# Altium footprint library PcbLib.PcbLib: 34 footprints (part 3 of 3)
Each footprint in its own frame and in the unit in brackets; x right, y up, seen from the top. Pads: shape width x height; smd on the part's side, far side on the other; paste and mask are expansions set on the pad; w line width, h text height; cw(c..) or ccw(c..) is an arc to the next point about the centre after c.
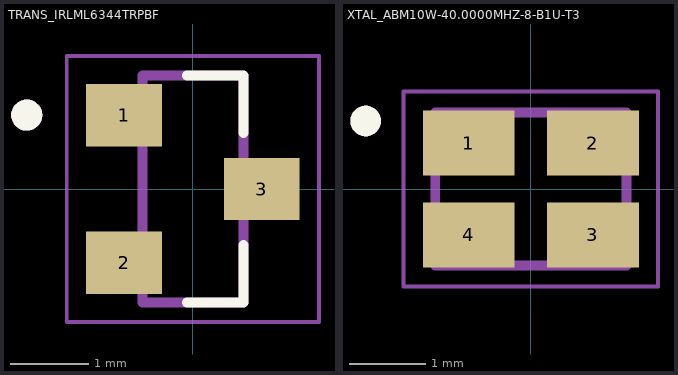
[diagram p2: the footprints below, top view; thin cyan lines are the x and y axes]

## TRANS_IRLML6344TRPBF [mm]
height 1.12
pads (3):
  rect 0.972x0.802 smd: 1(-0.885,0.95) 2(-0.885,-0.95) 3(0.885,0)
Top Overlay:
  circle w0.2: c-2.135,0.95 r0.1
  lines w0.127: -0.079,-1.46 0.65,-1.46 0.65,-0.721 ; -0.079,1.46 0.65,1.46 0.65,0.721
Top 3D Body:
  circle w0.2: c-2.135,0.95 r0.1
  lines w0.127: -0.65,-1.46 0.65,-1.46 0.65,1.46 -0.65,1.46 -0.65,-1.46
Top Courtyard:
  lines w0.05: -1.621,-1.71 1.621,-1.71 1.621,1.71 -1.621,1.71 -1.621,-1.71
3D body "step_temp.STEP": height 1.12, standoff 0, extent -1.255,-1.46 1.255,1.46

## XTAL_ABM10W-40.0000MHZ-8-B1U-T3 [mm]
height 0.6
pads (4):
  rect 1.2x0.85 smd: 1(-0.812,0.6) 2(0.812,0.6) 3(0.812,-0.6) 4(-0.812,-0.6)
Top Overlay:
  circle w0.2: c-2.159,0.889 r0.1
Top 3D Body:
  circle w0.2: c-2.159,0.889 r0.1
  lines w0.127: -1.25,-1 1.25,-1 1.25,1 -1.25,1 -1.25,-1
Top Courtyard:
  lines w0.05: -1.663,-1.275 1.663,-1.275 1.663,1.275 -1.663,1.275 -1.663,-1.275
3D body "step_temp.STEP": height 0.6, standoff 0, extent -1.25,-1 1.25,1